# EAGLE library part TPS6200* (library kamiki)
High-Efficiency Step-Down Low Power DC-DC Converter 95%, 10uH, 600mA output.
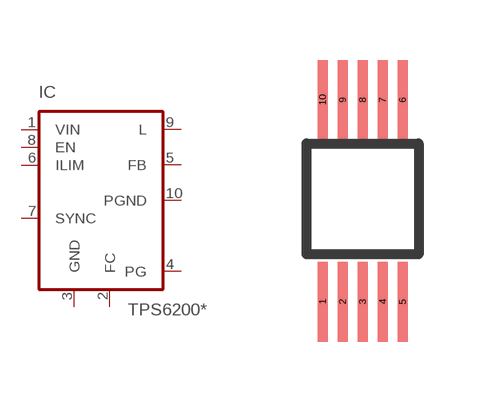
[diagram p33: symbol with the pads of MSOP10; footprint MSOP10]

Designator prefix IC

## TPS62000DGS, TPS62001DGS, TPS62002DGS, TPS62003DGS, TPS62004DGS, TPS62005DGS, TPS62006DGS, TPS62007DGS, TPS62008DGS  [MSOP10]
1  VIN  in
2  FC  pas
3  GND  pwr
4  PG  out
5  FB  pas
6  ILIM  pas
7  SYNC  in
8  EN  in
9  L  pas
10  PGND  pwr

## Footprint MSOP10 (pad centres in mm)
Micro Small Outline Package
smd 0.25 x 2: 1 -1,-2.525; 2 -0.5,-2.525; 3 0,-2.525; 4 0.5,-2.525; 5 1,-2.525; 6 1,2.525; 7 0.5,2.525; 8 0,2.525; 9 -0.5,2.525; 10 -1,2.525